# EAGLE library part SN74LS09DR (library SamacSys_Parts)
Quad 2-input positive-AND gates with open collector outputs Source: Datasheet <http://www.ti.com/lit/gpn/sn74ls09>
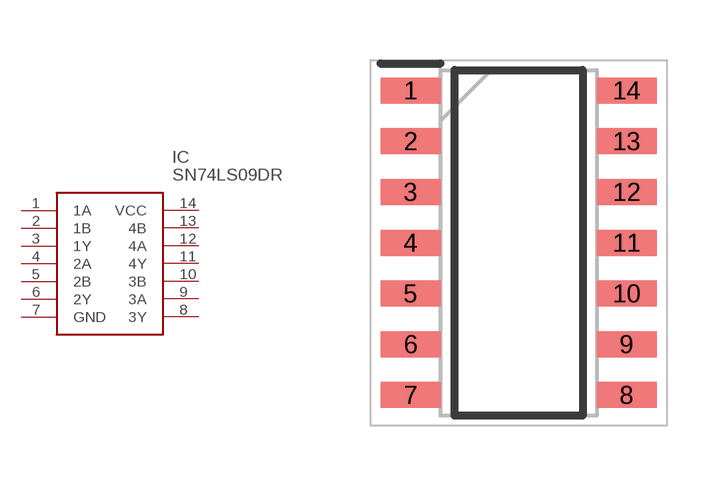
[diagram p65: symbol with the pads of SOIC127P600X175-14N; footprint SOIC127P600X175-14N]

Designator prefix IC

## SN74LS09DR (DESCRIPTION: Quad 2-input positive-AND gates with open collector outputs; HEIGHT: 1.75mm; MANUFACTURER_NAME: Texas Instruments; MANUFACTURER_PART_NUMBER: SN74LS09DR; MOUSER_PART_NUMBER: 595-SN74LS09DR; MOUSER_PRICE-STOCK: https://www.mouser.co.uk/ProductDetail/Texas-Instruments/SN74LS09DR?qs=SL3LIuy2dWzN3p4YdmeZeg%3D%3D)  [SOIC127P600X175-14N]
1  1A
2  1B
3  1Y
4  2A
5  2B
6  2Y
7  GND
8  3Y
9  3A
10  3B
11  4Y
12  4A
13  4B
14  VCC

## Footprint SOIC127P600X175-14N (pad centres in mm)
14-Lead(SL) SOIC
smd 1.5 x 0.65: 1 -2.7,3.81; 2 -2.7,2.54; 3 -2.7,1.27; 4 -2.7,0; 5 -2.7,-1.27; 6 -2.7,-2.54; 7 -2.7,-3.81; 8 2.7,-3.81; 9 2.7,-2.54; 10 2.7,-1.27; 11 2.7,0; 12 2.7,1.27; 13 2.7,2.54; 14 2.7,3.81